# Altium schematic symbol library Fuses.SchLib: 10 symbols
Pins are listed as number, name and electrical type; pins without a type are passive.

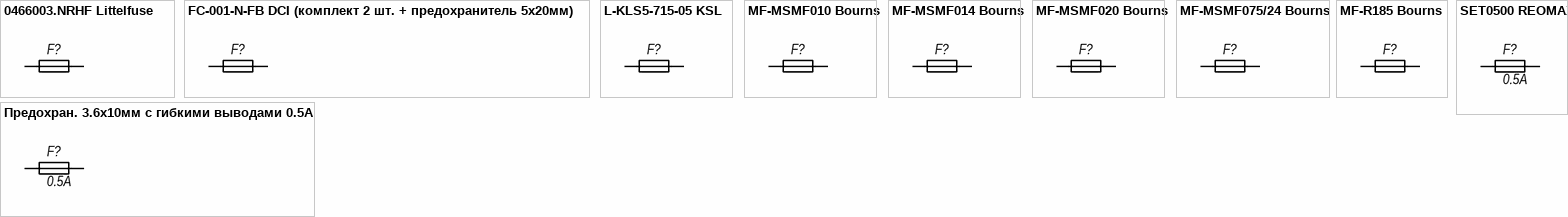
[diagram p0: symbols 0466003.NRHF Littelfuse to Предохран. 3.6х10мм с гибкими выводами 0.5А]

## 0466003.NRHF Littelfuse
designator F?, comment 3A  (value not drawn)
footprint FUSE1206
pins: 1, 2

## FC-001-N-FB DCI (комплект 2 шт. + предохранитель 5х20мм)
designator F?  (value not drawn)
FC-001-N-FB
footprint FC-001-N-FB
pins: 1, 2

## L-KLS5-715-05 KSL
designator F?  (value not drawn)
footprint L-KLS5-715-05
pins: 1, 2

## MF-MSMF010 Bourns
designator F?  (value not drawn)
Предохранитель самовосстанавливающийся, 60В, 0.1А
footprint MF-MSMF-XXX
pins: 1, 2

## MF-MSMF014 Bourns
designator F?  (value not drawn)
Предохранитель самовосстанавливающийся, 60В, 0.14А
footprint MF-MSMF-XXX
pins: 1, 2

## MF-MSMF020 Bourns
designator F?  (value not drawn)
Предохранитель самовосстанавливающийся, 30В, 0.2А
footprint MF-MSMF-XXX
pins: 1, 2

## MF-MSMF075/24 Bourns
designator F?  (value not drawn)
Предохранитель самовосстанавливающийся, 24В, 0.75А
footprint MF-MSMF-XXX
pins: 1, 2

## MF-R185 Bourns
designator F?, comment 1.85A  (value not drawn)
Предохранитель самовосстанавливающийся, 30В, 1.85А
footprint MF-R185
pins: 1, 2

## SET0500 REOMAX
designator F?, comment 0.5A
Предохранитель 250В, 0.5А
footprint FUSE1808
pins: 1, 2

## Предохран. 3.6х10мм с гибкими выводами 0.5А
designator F?, comment 0.5A
Предохранитель 250В, 0.5А
pins: 1, 2